# Altium schematic symbol library Socket 8.SchLib: 1 symbol
Pins are listed as number, name and electrical type; pins without a type are passive.

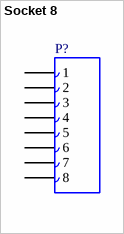
[diagram p0: symbol Socket 8]

## Socket 8
designator P?
Socket (Female header), 8-Pin
pins: 1, 2, 3, 4, 5, 6, 7, 8